# Altium schematic symbol library 4x1_header.SchLib: 2 symbols
Pins are listed as number, name and electrical type; pins without a type are passive.

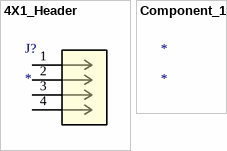
[diagram p0: symbols 4X1_Header to Component_1]

## 4X1_Header
designator J?
No Description Available; Mfr_Name: Global Connector Technology; Type: Headers, Receptacles, Female Sockets; RefDes: RefDes
footprint 4x1_Header
pins: 1, 2, 3, 4

## Component_1
designator *